# Altium schematic symbol library Sykam-Mech1.SchLib: 21 symbols
Pins are listed as number, name and electrical type; pins without a type are passive.

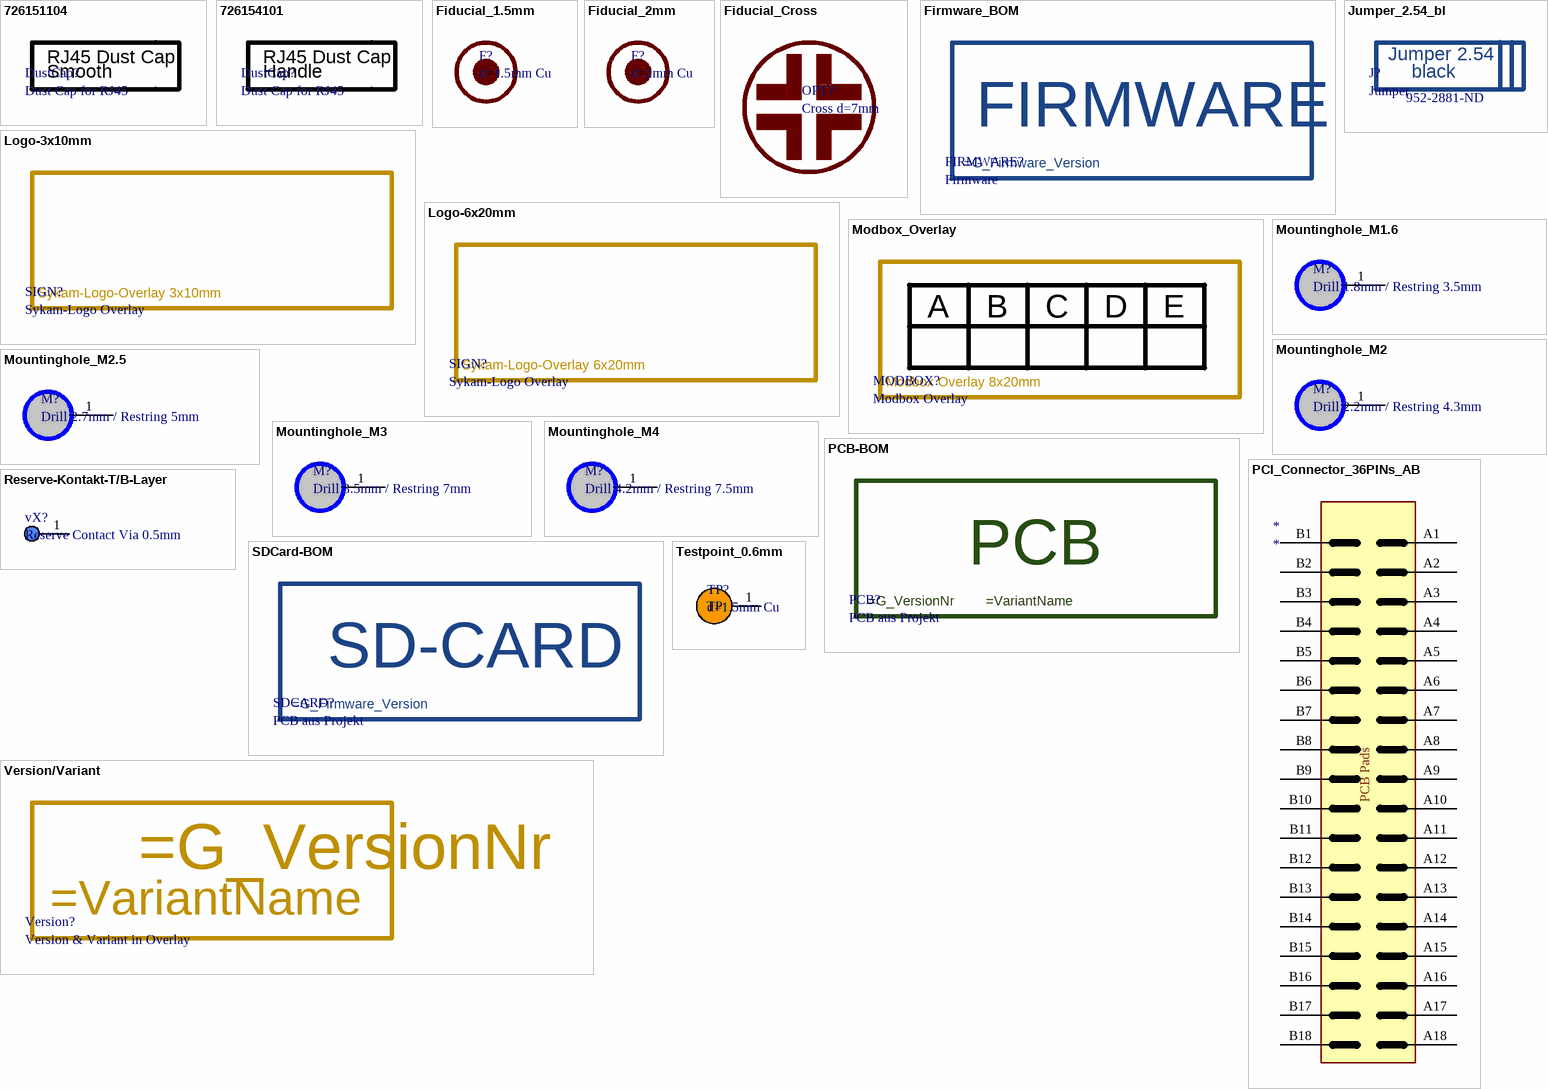
[diagram p0: symbols 726151104 to Version/Variant]

## 726151104
designator DustCap?, comment Dust Cap for RJ45  (mechanical)
CONN CAP FOR RJ45 CONNECTORS; Manufacturer Part Number: 726151104; Manufacturer: Wurth Electronics; Body Material: PE,Polyethylene; Supplier 1: Digi-Key; RoHS: Yes; Category: Connectors; Color: Black; Package Quantity: 1000; REACH SVHC: Unknown; Lead Free: Lead Free; ComponentLink1URL: https://datasheet.ciiva.com/6932/726151104-6932762.pdf?src-supplier=Digi-Key; ComponentLink1Description: https://datasheet.ciiva.com/6932/726151104-6932762.pdf?src-supplier=Digi-Key; Supplier Part Number 1: 732-3803-ND; Stock 1: 1602
text: RJ45 Dust Cap; Smooth

## 726154101
designator DustCap?, comment Dust Cap for RJ45  (mechanical)
WURTH ELEKTRONIK         726154101             Dust Cap / Cover, Dust Cap, RJ45 Connectors, PE (Polyethylene) Body; Manufacturer: Wurth Electronics; Body Material: PE,Polyethylene; Supplier 1: Digi-Key; Manufacturer Part Number: 726154101; RoHS: Yes; Category: Connectors; Color: Black; Package Quantity: 1000; REACH SVHC: Unknown; ComponentLink1URL: https://datasheet.ciiva.com/6935/726154101-6935427.pdf?src-supplier=Digi-Key; ComponentLink1Description: https://datasheet.ciiva.com/6935/726154101-6935427.pdf?src-supplier=Digi-Key; ComponentLink2URL: https://datasheet.ciiva.com/1409/1388826-1409586.pdf?src-supplier=Element14; ComponentLink2Description: https://datasheet.ciiva.com/1409/1388826-1409586.pdf?src-supplier=Element14; Supplier Part Number 1: 732-3804-ND; Stock 1: 14432
text: RJ45 Dust Cap; Handle

## Fiducial_1.5mm
designator F?, comment d=1.5mm Cu  (no BOM)
Fiducial Passermarke mit 1.5mm Druchmesser.
footprint Fiducial_1 (d=1.5mm)

## Fiducial_2mm
designator F?, comment d=2mm Cu  (no BOM)
Fiducial Passermarke mit 2mm Druchmesser.
footprint Fiducial_2 (d=2mm)

## Fiducial_Cross
designator OPT?, comment Cross d=7mm  (no BOM)
Fiducial Cross for Optical alignment.
footprint Fiducial-Cross

## Firmware_BOM
designator FIRMWARE?, comment Firmware
Firmware für das Design.
text: FIRMWARE

## Jumper_2.54_bl
designator J?, comment Jumper  Supplier Part Number 1: 952-2881-ND
Jumper für 2.54 Raster, 2 polig, black; Supplier 1: Digi-Key
text: Jumper 2.54; black

## Logo-3x10mm
designator SIGN?, comment Sykam-Logo Overlay  (no BOM)
Sykam Logo im Overlay
footprint Logo-Sykam_3x10mm (Logo Sykam GmbH in Overlay)
text: Sykam-Logo-Overlay 3x10mm

## Logo-6x20mm
designator SIGN?, comment Sykam-Logo Overlay  (no BOM)
Sykam Logo im Overlay
footprint Logo-Sykam_6x20mm (Logo Sykam GmbH in Overlay)
text: Sykam-Logo-Overlay 6x20mm

## Modbox_Overlay
designator MODBOX?, comment Modbox Overlay  (graphical)
Modbox to sign modifikations.
footprint Modbox (Modbox in Overlay)
text: A; B; C; D; E; Modbox Overlay 8x20mm

## Mountinghole_M1.6
designator M?, comment Drill 1.8mm / Restring 3.5mm  (no BOM)
footprint Mountingholes_M1.6_ZylKS_Plated (M1.6)
pins: 1

## Mountinghole_M2
designator M?, comment Drill 2.2mm / Restring 4.3mm  (no BOM)
footprint Mountingholes_M2_ZylKS_Plated (M2)
pins: 1

## Mountinghole_M2.5
designator M?, comment Drill 2.7mm / Restring 5mm  (no BOM)
footprint Mountingholes_M2.5_ZylKS_Plated (M2.5)
pins: 1

## Mountinghole_M3
designator M?, comment Drill 3.5mm / Restring 7mm  (no BOM)
footprint Mountingholes_M3_ZylKS_Plated (M3)
pins: 1

## Mountinghole_M4
designator M?, comment Drill 4.2mm / Restring 7.5mm  (no BOM)
footprint Mountingholes_M4_ZylKS_Plated (M4)
pins: 1

## PCB-BOM
designator PCB?, comment PCB aus Projekt
Leiterplatte aus dem Projekt.
text: PCB

## PCI_Connector_36PINs_AB
designator *  (no BOM)
pins: A1, A2, A3, A4, A5, A6, A7, A8, A9, A10, A11, A12, A13, A14, A15, A16, A17, A18, B1, B2, B3, B4, B5, B6, B7, B8, B9, B10, B11, B12, B13, B14, B15, B16, B17, B18
text: PCB Pads

## Reserve-Kontakt-T/B-Layer
designator vX?, comment Reserve Contact Via 0.5mm  (no BOM)
Via Reserve Kontakt
footprint ReseveContact (Via 0.3mm)
pins: 1

## SDCard-BOM
designator SDCARD?, comment PCB aus Projekt
SD Card für Firmware.
text: SD-CARD

## Testpoint_0.6mm
designator TP?, comment d=1.5mm Cu  (no BOM)
Testpoint 0.6mm.
footprint Testpoint_0.6mm (d=1.5mm)
pins: 1 TP

## Version/Variant
designator Version?, comment Version & Variant in Overlay  (no BOM)
footprint Version/Variant (Versions Nummer + Variant Overlay)